# EAGLE library part BMG160 (library GTA04b7)
Bosch BMG160 Gyroscope
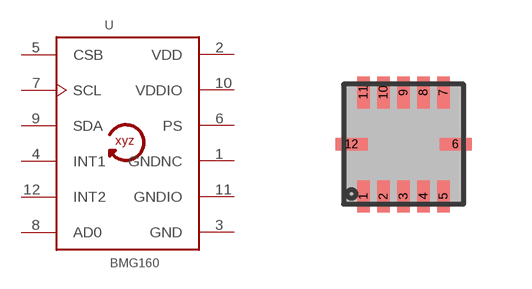
[diagram p5: symbol with the pads of BMG160; footprint BMG160]

Designator prefix -

## BMG160  [BMG160]
1  GNDNC  out
2  VDD  pwr
3  GND  pwr
4  INT1  out
5  CSB  in
6  PS  in
7  SCL  in
8  AD0  in
9  SDA
10  VDDIO  pwr
11  GNDIO  pwr
12  INT2  out

## Footprint BMG160 (pad centres in mm)
smd 0.32 x 0.8: 1 -1,-1.3; 2 -0.5,-1.3; 3 0,-1.3; 4 0.5,-1.3; 5 1,-1.3; 7 1,1.3; 8 0.5,1.3; 9 0,1.3; 10 -0.5,1.3; 11 -1,1.3
smd 0.8 x 0.32: 6 1.3,0; 12 -1.3,0